# EAGLE library part CC1125RHBT (library cube-parts)
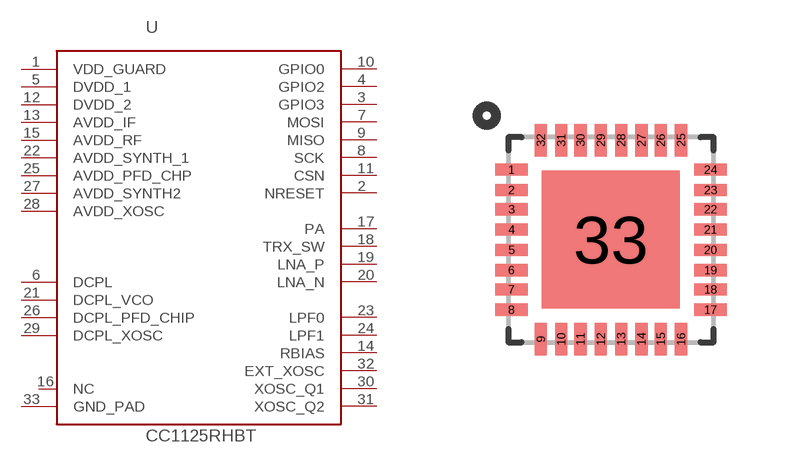
[diagram p0: symbol with the pads of QFN32_5X5; footprint QFN32_5X5]

Designator prefix -

## CC1125RHBT (FARNELL_OC: 2422924)  [QFN32_5X5]
1  VDD_GUARD
2  NRESET
3  GPIO3
4  GPIO2
5  DVDD_1
6  DCPL
7  MOSI
8  SCK
9  MISO
10  GPIO0
11  CSN
12  DVDD_2
13  AVDD_IF
14  RBIAS
15  AVDD_RF
16  NC
17  PA
18  TRX_SW
19  LNA_P
20  LNA_N
21  DCPL_VCO
22  AVDD_SYNTH_1
23  LPF0
24  LPF1
25  AVDD_PFD_CHP
26  DCPL_PFD_CHIP
27  AVDD_SYNTH2
28  AVDD_XOSC
29  DCPL_XOSC
30  XOSC_Q1
31  XOSC_Q2
32  EXT_XOSC
33  GND_PAD

## Footprint QFN32_5X5 (pad centres in mm)
smd 0.813 x 0.305: 1 -2.489,1.753; 2 -2.489,1.245; 3 -2.489,0.762; 4 -2.489,0.254; 5 -2.489,-0.254; 6 -2.489,-0.762; 7 -2.489,-1.245; 8 -2.489,-1.753; 17 2.489,-1.753; 18 2.489,-1.245; 19 2.489,-0.762; 20 2.489,-0.254; 21 2.489,0.254; 22 2.489,0.762; 23 2.489,1.245; 24 2.489,1.753
smd 0.305 x 0.813: 9 -1.753,-2.489; 10 -1.245,-2.489; 11 -0.762,-2.489; 12 -0.254,-2.489; 13 0.254,-2.489; 14 0.762,-2.489; 15 1.245,-2.489; 16 1.753,-2.489; 25 1.753,2.489; 26 1.245,2.489; 27 0.762,2.489; 28 0.254,2.489; 29 -0.254,2.489; 30 -0.762,2.489; 31 -1.245,2.489; 32 -1.753,2.489
smd 3.45 x 3.45: 33 0,0